# EAGLE library part OPA454AIDDA (library ic-power)
OPERATIONAL AMPLIFIERS
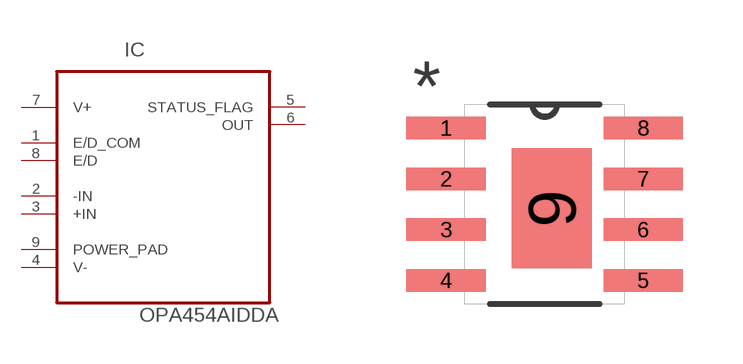
[diagram p6: symbol with the pads of SOIC127P600X170-9N; footprint SOIC127P600X170-9N]

Designator prefix IC

## OPA454AIDDA (MPN: OPA454AIDDA; OC_FARNELL: 1703220; OC_NEWARK: 73M3405; PACKAGE: SOIC-8; SUPPLIER: Texas Instruments)  [SOIC127P600X170-9N]
1  E/D_COM  in
2  -IN  in
3  +IN  in
4  V-  pwr
5  STATUS_FLAG  out
6  OUT  out
7  V+  pwr
8  E/D  in
9  POWER_PAD  pas

## Footprint SOIC127P600X170-9N (pad centres in mm)
smd 1.981 x 0.559: 1 -2.464,1.905; 2 -2.464,0.635; 3 -2.464,-0.635; 4 -2.464,-1.905; 5 2.464,-1.905; 6 2.464,-0.635; 7 2.464,0.635; 8 2.464,1.905
smd 2.007 x 2.997: 9 0.178,-0.102